# EAGLE library part MICROSEMI_PD70210A (library Poe)
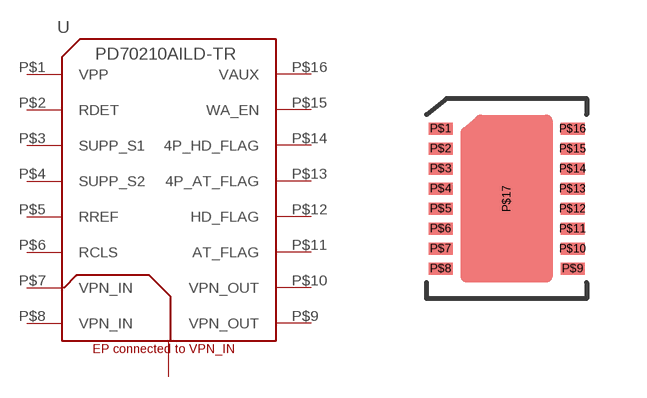
[diagram p10: symbol with the pads of MICROSEMI_DFN_5X4MM_16L; footprint MICROSEMI_DFN_5X4MM_16L]

Designator prefix U

## MICROSEMI_PD70210A  [MICROSEMI_DFN_5X4MM_16L]
P$1  VPP
P$2  RDET
P$3  SUPP_S1
P$4  SUPP_S2
P$5  RREF
P$6  RCLS
P$7  VPN_IN
P$8  VPN_IN
P$9  VPN_OUT
P$10  VPN_OUT
P$11  AT_FLAG
P$12  HD_FLAG
P$13  4P_AT_FLAG
P$14  4P_HD_FLAG
P$15  WA_EN
P$16  VAUX
P$17  P$17

## Footprint MICROSEMI_DFN_5X4MM_16L (pad centres in mm)
smd 0.6 x 0.3: P$1 -1.65,1.75; P$2 -1.65,1.25; P$3 -1.65,0.75; P$4 -1.65,0.25; P$5 -1.65,-0.25; P$6 -1.65,-0.75; P$7 -1.65,-1.25; P$8 -1.65,-1.75; P$9 1.65,-1.75; P$10 1.65,-1.25; P$11 1.65,-0.75; P$12 1.65,-0.25; P$13 1.65,0.25; P$14 1.65,0.75; P$15 1.65,1.25; P$16 1.65,1.75
smd 0.3 x 0.6: P$17 0,0